# EAGLE library part LMC6484AIN (library LMC6484AIN)
OP AMP
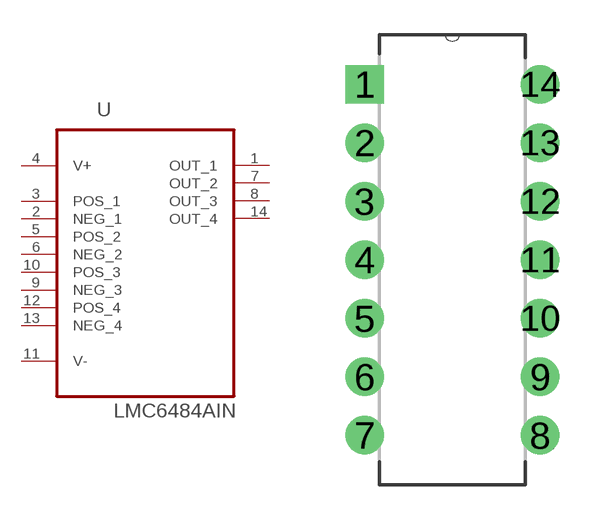
[diagram p0: symbol with the pads of DIP254P762X508-14; footprint DIP254P762X508-14]

Designator prefix U

## LMC6484AIN (Availability: Unavailable; Description: CMOS Quad Rail to Rail Input and Output Operational Amplifier 14-PDIP -40 to 85; MF: Texas Instruments; MP: LMC6484AIN/NOPB; Package: DIP-14 Texas Instruments; Price: None)  [DIP254P762X508-14]
1  OUT_1  out
2  NEG_1  in
3  POS_1  in
4  V+  pwr
5  POS_2  in
6  NEG_2  in
7  OUT_2  out
8  OUT_3  out
9  NEG_3  in
10  POS_3  in
11  V-  pwr
12  POS_4  in
13  NEG_4  in
14  OUT_4  out

## Footprint DIP254P762X508-14 (pad centres in mm)
drill 1.118 square: 1 -7.62,15.24
drill 1.118: 2 -7.62,12.7; 3 -7.62,10.16; 4 -7.62,7.62; 5 -7.62,5.08; 6 -7.62,2.54; 7 -7.62,0; 8 0,0; 9 0,2.54; 10 0,5.08; 11 0,7.62; 12 0,10.16; 13 0,12.7; 14 0,15.24